# Altium footprint library DIODFN2_60X30X29L18X26N.PcbLib: 1 footprints
Each footprint in its own frame and in the unit in brackets; x right, y up, seen from the top. Pads: shape width x height; smd on the part's side, far side on the other; paste and mask are expansions set on the pad; w line width, h text height; cw(c..) or ccw(c..) is an arc to the next point about the centre after c.
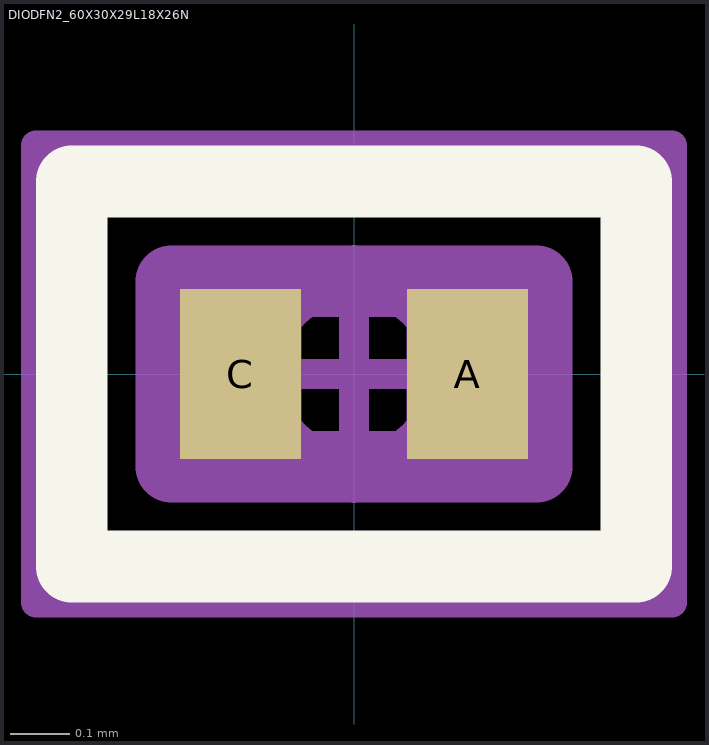
[diagram p0: the footprint, top view; thin cyan lines are the x and y axes]

## DIODFN2_60X30X29L18X26N [mm] "Diode, Dual Flat No-Lead, 2 pin; 0.60 mm L X 0.30 mm W X 0.29 mm H Body"
height 0.29
pads (2):
  rect 0.202x0.284 smd: A(0.19,0) C(-0.19,0)
Top Overlay:
  lines w0.12: -0.472,-0.322 -0.472,0.322 0.472,0.322 0.472,-0.322 -0.472,-0.322
Mechanical 3:
  lines w0.12: -0.305,-0.155 -0.305,0.155 0.305,0.155 0.305,-0.155 -0.305,-0.155
Mechanical 5:
  lines w0.025: -0.3,-0.15 -0.3,0.15 0.3,0.15 0.3,-0.15 -0.3,-0.15 ; -0.28,-0.13 -0.1,-0.13 -0.1,0.13 -0.28,0.13 -0.28,-0.13 ; 0.1,-0.13 0.1,0.13 0.28,0.13 0.28,-0.13 0.1,-0.13
Mechanical 7:
  circle w0.05: c0,0 r0.143
  lines w0.05: -0.191,0 0.191,0 ; 0,-0.191 0,0.191 ; -0.532,-0.382 -0.532,0.382 0.532,0.382 0.532,-0.382 -0.532,-0.382
3D body "DIODFN2_60X30X29L18X26.STEP": height 0.29, standoff 0, extent -0.3,-0.15 0.3,0.15
3D body: height 23.4, standoff -5, extent -0.532,-0.382 0.532,0.382